# Altium footprint library Разъемы импортные.PcbLib: 127 footprints (part 2 of 8)
Each footprint in its own frame and in the unit in brackets; x right, y up, seen from the top. Pads: shape width x height; smd on the part's side, far side on the other; paste and mask are expansions set on the pad; w line width, h text height; cw(c..) or ccw(c..) is an arc to the next point about the centre after c.
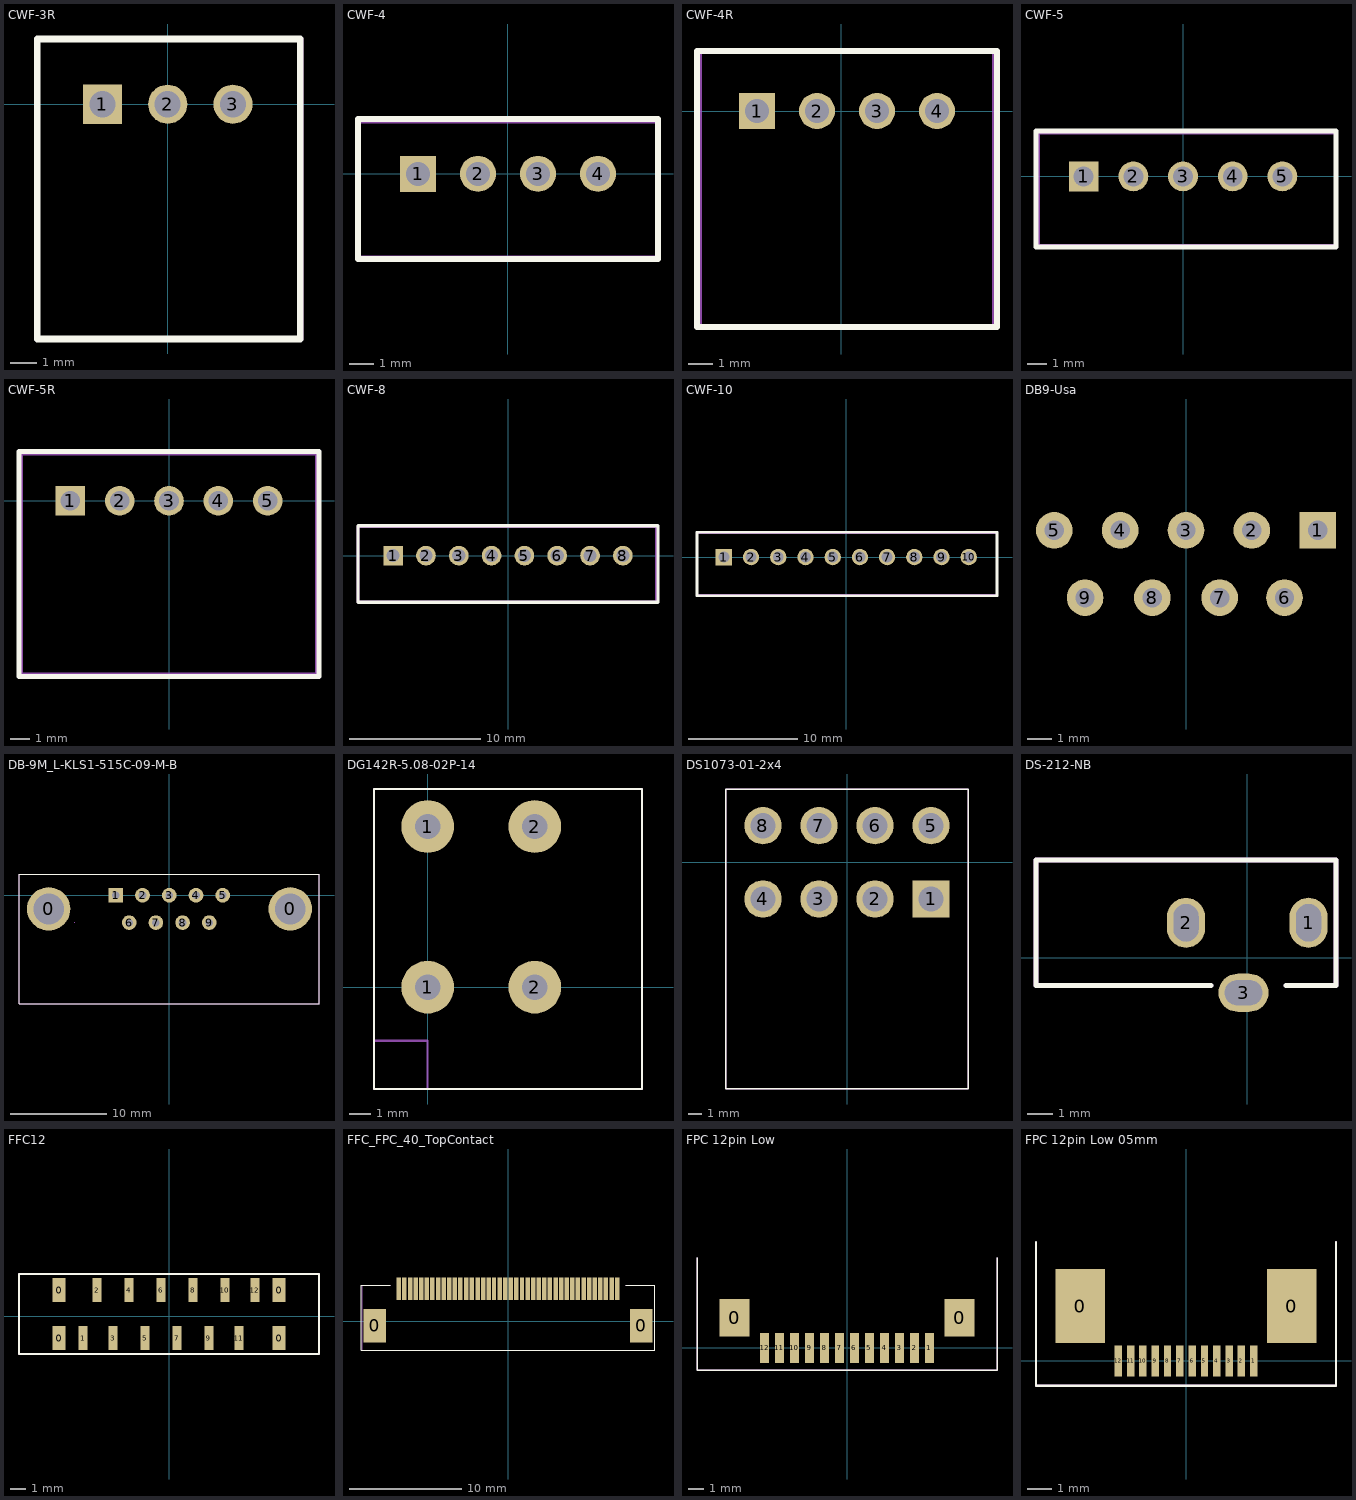
[diagram p1: the footprints below, top view; thin cyan lines are the x and y axes]

## CWF-3R [mm]
pads (3):
  rect 1.5x1.5 hole 1: 1(-2.5,0)
  round 1.5 hole 1: 2(0,0) 3(2.5,0)
Top Overlay:
  lines w0.254: -5,-9 -5,2.5 -0.595,2.5 3.215,2.5 5.08,2.5 5.08,-9 -5,-9
TopAssy:
  lines w0.2: -5,-9 -5,2.5 5.1,2.5 5.1,-9 -5,-9
  text ".Designator" at -4.2,-6.9 h3
3D body "DS1069-3 CWF-3R.step": height 5.75, standoff -3.5, extent -5,-8.88 5,2.62

## CWF-4 [mm]
pads (4):
  rect 1.5x1.5 hole 1: 1(-3.75,0)
  round 1.5 hole 1: 2(-1.25,0) 3(1.25,0) 4(3.75,0)
Top Overlay:
  lines w0.254: -6.25,-3.556 -6.25,2.286 -0.631,2.286 3.179,2.286 6.25,2.286 6.25,-3.556 -6.25,-3.556
TopAssy:
  lines w0.2: -6.25,-3.5 6.25,-3.5 6.25,2.2 -6.25,2.2 -6.25,-3.5
  text ".Designator" at -5.45,-1.4 h3
3D body "DS1069-4 CWF-4.step": height 7, standoff -3.5, extent -6.25,-3.55 6.25,2.2

## CWF-4R [mm]
pads (4):
  rect 1.5x1.5 hole 1: 1(-3.5,0)
  round 1.5 hole 1: 2(-1,0) 3(1.5,0) 4(4,0)
Top Overlay:
  lines w0.254: -6,-9 6.5,-9 6.5,2.5 3.643,2.5 -0.167,2.5 -6,2.5 -6,-9
TopAssy:
  lines w0.2: -5.9,-9 -5.9,2.5 6.4,2.5 6.4,-9 -5.9,-9
  text ".Designator" at -5.1,-6.9 h3
3D body "DS1069-4 CWF-4R.step": height 5.75, standoff -3.5, extent -6,-8.88 6.5,2.62

## CWF-5 [mm]
pads (5):
  rect 1.5x1.5 hole 1: 1(-5,0)
  round 1.5 hole 1: 2(-2.5,0) 3(0,0) 4(2.5,0) 5(5,0)
Top Overlay:
  lines w0.254: -7.4,-3.556 7.7,-3.556 7.7,2.286 3.429,2.286 -0.381,2.286 -7.4,2.286 -7.4,-3.556
TopAssy:
  lines w0.2: -7.3,-3.5 -7.3,2.2 7.7,2.2 7.7,-3.5 -7.3,-3.5
  text ".Designator" at -6.5,-1.4 h3
3D body "DS1069-5 CWF-5.step": height 7, standoff -3.5, extent -7.4,-3.65 7.6,2.1

## CWF-5R [mm]
pads (5):
  rect 1.5x1.5 hole 1: 1(-5,0)
  round 1.5 hole 1: 2(-2.5,0) 3(0,0) 4(2.5,0) 5(5,0)
Top Overlay:
  lines w0.254: -7.6,-8.9 -7.6,2.5 -0.595,2.5 3.215,2.5 7.6,2.5 7.6,-8.9 -7.6,-8.9
TopAssy:
  lines w0.2: -7.5,-8.8 -7.5,2.4 7.5,2.4 7.5,-8.8 -7.5,-8.8
  text ".Designator" at -6.7,-6.7 h3
3D body "DS1069-5 CWF-5R.step": height 5.75, standoff -3.5, extent -7.5,-8.88 7.5,2.62

## CWF-8 [mm]
pads (8):
  rect 1.5x1.5 hole 1: 1(-8.75,0)
  round 1.5 hole 1: 2(-6.25,0) 3(-3.75,0) 4(-1.25,0) 5(1.25,0) 6(3.75,0) 7(6.25,0) 8(8.75,0)
Top Overlay:
  lines w0.254: -11.43,-3.556 -11.43,2.286 -0.381,2.286 3.429,2.286 11.43,2.286 11.43,-3.556 -11.43,-3.556
TopAssy:
  lines w0.2: -11.43,-3.5 11.303,-3.5 11.303,2.2 -11.43,2.2 -11.43,-3.5
  text ".Designator" at -5.2,-1.4 h3
3D body "CWF-8.step": height 7, standoff -3.5, extent -11.25,-3.591 11.25,2.159

## CWF-10 [mm]
pads (10):
  rect 1.5x1.5 hole 1: 1(-11.25,0)
  round 1.5 hole 1: 2(-8.75,0) 3(-6.25,0) 4(-3.75,0) 5(-1.25,0) 6(1.25,0) 7(3.75,0) 8(6.25,0) 9(8.75,0) 10(11.25,0)
Top Overlay:
  lines w0.254: -13.716,-3.556 -13.716,2.286 -0.381,2.286 3.429,2.286 13.843,2.286 13.843,-3.556 -13.716,-3.556
TopAssy:
  lines w0.2: -13.716,-3.5 13.843,-3.5 13.843,2.2 -13.716,2.2 -13.716,-3.5
  text ".Designator" at -6.5,-1.4 h3
3D body "CWF-10.step": height 7, standoff -3.5, extent -13.75,-3.556 13.75,2.194

## DB9-Usa [mm]
pads (9):
  rect 1.524x1.524 hole 0.8: 1(5.48,10.9)
  round 1.524 hole 0.8: 2(2.74,10.9) 3(0,10.9) 4(-2.74,10.9) 5(-5.48,10.9) 6(4.1,8.1) 7(1.4,8.1) 8(-1.4,8.1) 9(-4.2,8.1)
3D body "DB9-Usa.step": height 12.87, standoff -4, extent -15.405,-5.8 15.405,12.5

## DB-9M_L-KLS1-515C-09-M-B [mm]
pads (11):
  round 4.5 hole 3.2: 0(-12.495,-1.42) 0(12.545,-1.42)
  rect 1.524x1.524 hole 0.8: 1(-5.54,0)
  round 1.524 hole 0.8: 2(-2.77,0) 3(0,0) 4(2.77,0) 5(5.54,0) 6(-4.155,-2.84) 7(-1.385,-2.84) 8(1.385,-2.84) 9(4.155,-2.84)
Top Overlay:
  lines w0.1: -15.575,-11.25 -15.575,2.175 15.525,2.175 15.525,-11.25 -12.5,-11.25 -15.575,-11.25
TopAssy:
  lines w0.1: -9.81,-2.84 -9.795,-2.825 ; -15.575,-11.25 -12.5,-11.25 15.525,-11.25 15.525,2.175 -15.575,2.175 -15.575,-11.25
  text ".Designator" at -6.35,-6.45 h3
3D body "dtype 9 way pcb male hori - 1-338168-2.stp": height 13.6, standoff -3.2, extent -15.57,-18.925 15.52,2.175

## DG142R-5.08-02P-14 [mm]
pads (4):
  round 2.5 hole 1.2: 1(0,0) 1(0,7.62) 2(5.08,0) 2(5.08,7.62)
Top Overlay:
  lines w0.1: -2.54,-4.826 10.16,-4.826 10.16,9.398 -2.54,9.398 -2.54,-4.826
TopAssy:
  lines w0.1: -2.54,-2.54 0,-2.54 0,-4.826 ; -2.54,-4.826 -2.54,9.398 10.16,9.398 10.16,-4.826 -2.54,-4.826
  text ".Designator" at -2.734,0.316 h3
3D body "DG142R-2-5.08.stp": height 13.4, standoff -3.5, extent -2.49,-4.702 10.11,9.398

## DS1073-01-2x4 [mm]
pads (8):
  rect 2.8x2.8 hole 1.9: 1(6.3,-2.75)
  round 2.8 hole 1.9: 2(2.1,-2.75) 3(-2.1,-2.75) 4(-6.3,-2.75) 5(6.3,2.75) 6(2.1,2.75) 7(-2.1,2.75) 8(-6.3,2.75)
Top Overlay:
  lines w0.1: 9.1,-15.271 9.1,5.5 ; 9.1,5.5 9.1,-17 -9.1,-17 -9.1,5.5 9.1,5.5
TopAssy:
  lines w0.1: -9.1,-17 9.1,-17 9.1,5.5 -9.1,5.5 -9.1,-17
  text ".Designator" at -2.2,-10.5 h1.52

## DS-212-NB [mm]
pads (3):
  oval 1.524x2 hole 1 slot 1.5 at 90 deg: 1(2.45,1.4) 2(-2.45,1.4)
  oval 2x1.524 hole 1 slot 1.5 at 0 deg: 3(-0.15,-1.4)
Top Overlay:
  lines w0.2: -1.45,-1.1 -8.45,-1.1 -8.45,3.9 3.55,3.9 3.55,-1.1 1.55,-1.1
TopAssy:
  lines w0.2: -1.45,-1.1 -8.45,-1.1 -8.45,3.9 3.55,3.9 3.55,-1.1 1.55,-1.1
  text ".Designator" at -5.109,1.265 h1.52

## FFC12 [mm]
pads (16):
  rect 0.8x1.5 smd: 0(-6.985,-1.397) 0(-6.985,1.651) 0(6.985,-1.397) 0(6.985,1.651)
  rect 0.6x1.5 smd: 1(-5.461,-1.397) 2(-4.572,1.651) 3(-3.556,-1.397) 4(-2.54,1.651) 5(-1.524,-1.397) 6(-0.508,1.651) 7(0.508,-1.397) 8(1.524,1.651) 9(2.54,-1.397) 10(3.556,1.651) 11(4.445,-1.397) 12(5.461,1.651)
Top Overlay:
  lines w0.1: -9.525,-2.413 -9.525,2.667 9.525,2.667 9.525,-2.413 -9.525,-2.413
TopAssy:
  lines w0.1: -9.525,-2.413 9.525,-2.413 9.525,2.667 -9.525,2.667 -9.525,-2.413
  text ".Designator" at -2.159,-0.635 h1.52
3D body "FFC_12 686112183822.stp": height 3.92, standoff -0.1, extent -9.4,-1.65 9.4,1.95

## FFC_FPC_40_TopContact [mm]
pads (42):
  rect 2x3 smd: 0(-11.9,-0.4) 0(11.9,-0.4)
  rect 0.4x2 smd: 1(9.75,2.9) 2(9.25,2.9) 3(8.75,2.9) 4(8.25,2.9) 5(7.75,2.9) 6(7.25,2.9) 7(6.75,2.9) 8(6.25,2.9) 9(5.75,2.9) 10(5.25,2.9) 11(4.75,2.9) 12(4.25,2.9) 13(3.75,2.9) 14(3.25,2.9) 15(2.75,2.9) 16(2.25,2.9) 17(1.75,2.9) 18(1.25,2.9) 19(0.75,2.9) 20(0.25,2.9) 21(-0.25,2.9) 22(-0.75,2.9) 23(-1.25,2.9) 24(-1.725,2.9) 25(-2.225,2.9) 26(-2.7,2.9) 27(-3.225,2.9) 28(-3.75,2.9) 29(-4.25,2.9) 30(-4.75,2.9) 31(-5.25,2.9) 32(-5.75,2.9) 33(-6.25,2.9) 34(-6.75,2.9) 35(-7.25,2.9) 36(-7.75,2.9) 37(-8.25,2.9) 38(-8.75,2.9) 39(-9.25,2.9) 40(-9.75,2.9)
Top Overlay:
  lines w0.1: -10.5,3.2 -13.1,3.2 -13.1,-2.6 13.1,-2.6 13.1,3.2 10.5,3.2
TopAssy:
  lines w0.1: -10.5,3.2 -13,3.2 -13,-2.6 13.1,-2.6 13.1,3.2 10.5,3.2
  text ".Designator" at -3.559,-0.235 h1.52
3D body "54104-4031_FFC_40pin_Low.stp": height 2.1, standoff 0.05, extent -12.75,-2.54 12.75,3.06

## FPC 12pin Low [mm]
pads (14):
  rect 2x2.5 smd: 0(-7.5,2) 0(7.5,2)
  rect 0.6x2 smd: 1(5.5,0) 2(4.5,0) 3(3.5,0) 4(2.5,0) 5(1.5,0) 6(0.5,0) 7(-0.5,0) 8(-1.5,0) 9(-2.5,0) 10(-3.5,0) 11(-4.5,0) 12(-5.5,0)
Top Overlay:
  lines w0.1: -10,6 -10,-1.5 10,-1.5 10,6
TopAssy:
  lines w0.1: -10,6 -10,-1.5 10,-1.5 10,6
  text ".Designator" at -7,4.5 h1.52
3D body "ffc_fpc_affc07-12-100-shb-t_LowPin.stp": height 2.8, standoff 0, extent -9.5,-0.51 9.5,6

## FPC 12pin Low 05mm [mm]
pads (14):
  rect 2x3 smd: 0(-4.3,2.225) 0(4.3,2.225)
  rect 0.3x1.25 smd: 1(2.75,0) 2(2.25,0) 3(1.75,0) 4(1.25,0) 5(0.75,0) 6(0.25,0) 7(-0.25,0) 8(-0.75,0) 9(-1.25,0) 10(-1.75,0) 11(-2.25,0) 12(-2.75,0)
Top Overlay:
  lines w0.1: -6.096,4.826 -6.096,-1.016 6.096,-1.016 6.096,4.826
TopAssy:
  lines w0.1: -6.096,4.572 -6.096,-1.016 6.096,-1.016 6.096,4.826
  text ".Designator" at -1.778,2.032 h1.52
3D body "52746-1271.stp": height 2, standoff -0.02, extent -6.05,-0.192 6.05,4.808